# EAGLE library part BMI055 (library BMI055)
BMI055 6 Axis Inertial Sensor (12 Bit Acceleration Sensor + Gyroscope) 3 x 4 mm Check availability <https://pricing.snapeda.com/parts/BMI055/Bosch/view-part?ref=eda>
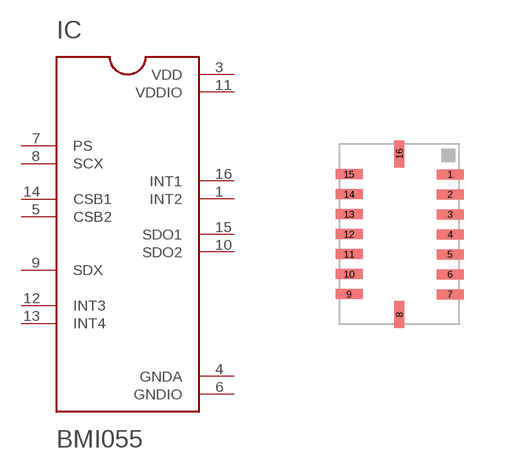
[diagram p0: symbol with the pads of QFN50P300X450X100-16N; footprint QFN50P300X450X100-16N]

Designator prefix IC

## BMI055 (Availability: In Stock; Description: BMI055 series Accelerometer, Gyroscope, 6 Axis Sensor Evaluation Board; MF: Bosch; MP: BMI055; Package: LGA-16 Bosch; Price: None; Purchase-URL: https://pricing.snapeda.com/search/part/BMI055/?ref=eda)  [QFN50P300X450X100-16N]
1  INT2  out
3  VDD  pwr
4  GNDA  pas
5  CSB2  in
6  GNDIO  pas
7  PS  in
8  SCX  in
9  SDX
10  SDO2  out
11  VDDIO  pwr
12  INT3
13  INT4
14  CSB1  in
15  SDO1  out
16  INT1  out

## Footprint QFN50P300X450X100-16N (pad centres in mm)
smd 0.675 x 0.25: 1 1.265,1.499; 2 1.265,0.999; 3 1.265,0.499; 4 1.265,-0.001; 5 1.265,-0.501; 6 1.265,-1.001; 7 1.265,-1.501; 9 -1.262,-1.5; 10 -1.262,-1; 11 -1.262,-0.5; 12 -1.262,0; 13 -1.262,0.5; 14 -1.262,1; 15 -1.262,1.5
smd 0.25 x 0.675: 8 0,-2.012; 16 0,2.013